# EAGLE library part SN74HC151N (library SN74HC151N)
Encoders, Decoders, Multiplexers & Demultiplexers 8-1 Line Data Selctr Source: Datasheet <https://www.ti.com/lit/gpn/SN74HC151>
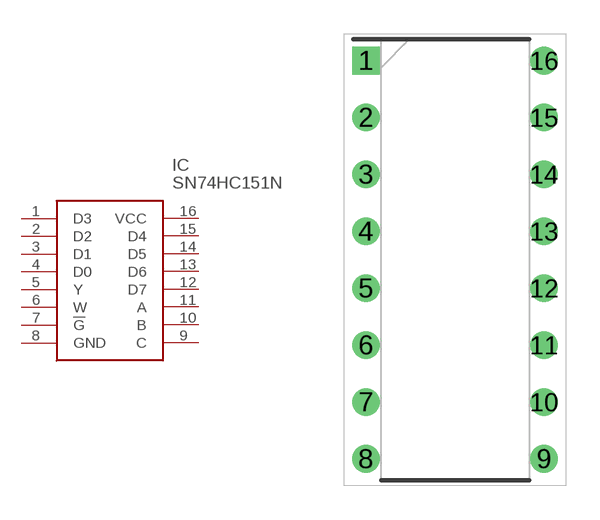
[diagram p0: symbol with the pads of DIP794W53P254L1930H508Q16N; footprint DIP794W53P254L1930H508Q16N]

Designator prefix IC

## SN74HC151N (Description: Encoders, Decoders, Multiplexers & Demultiplexers 8-1 Line Data Selctr; Height: 5.08mm; Manufacturer_Name: Texas Instruments; Manufacturer_Part_Number: SN74HC151N; Mouser_Part_Number: 595-SN74HC151N; Mouser_Price-Stock: https://www.mouser.co.uk/ProductDetail/Texas-Instruments/SN74HC151N?qs=st7IWvlL5%2FgZ0EYsqHF4AQ%3D%3D)  [DIP794W53P254L1930H508Q16N]
1  D3
2  D2
3  D1
4  D0
5  Y
6  W
7  !G
8  GND
9  C
10  B
11  A
12  D7
13  D6
14  D5
15  D4
16  VCC

## Footprint DIP794W53P254L1930H508Q16N (pad centres in mm)
N (R-PDIP-T)
drill 0.73 pad 1.13 square: 1 -3.97,8.89
drill 0.73 pad 1.13: 2 -3.97,6.35; 3 -3.97,3.81; 4 -3.97,1.27; 5 -3.97,-1.27; 6 -3.97,-3.81; 7 -3.97,-6.35; 8 -3.97,-8.89; 9 3.97,-8.89; 10 3.97,-6.35; 11 3.97,-3.81; 12 3.97,-1.27; 13 3.97,1.27; 14 3.97,3.81; 15 3.97,6.35; 16 3.97,8.89